# EAGLE library part MK64FN1M0VLL12 (library Freescale)
New freescale processor for DBC002.1
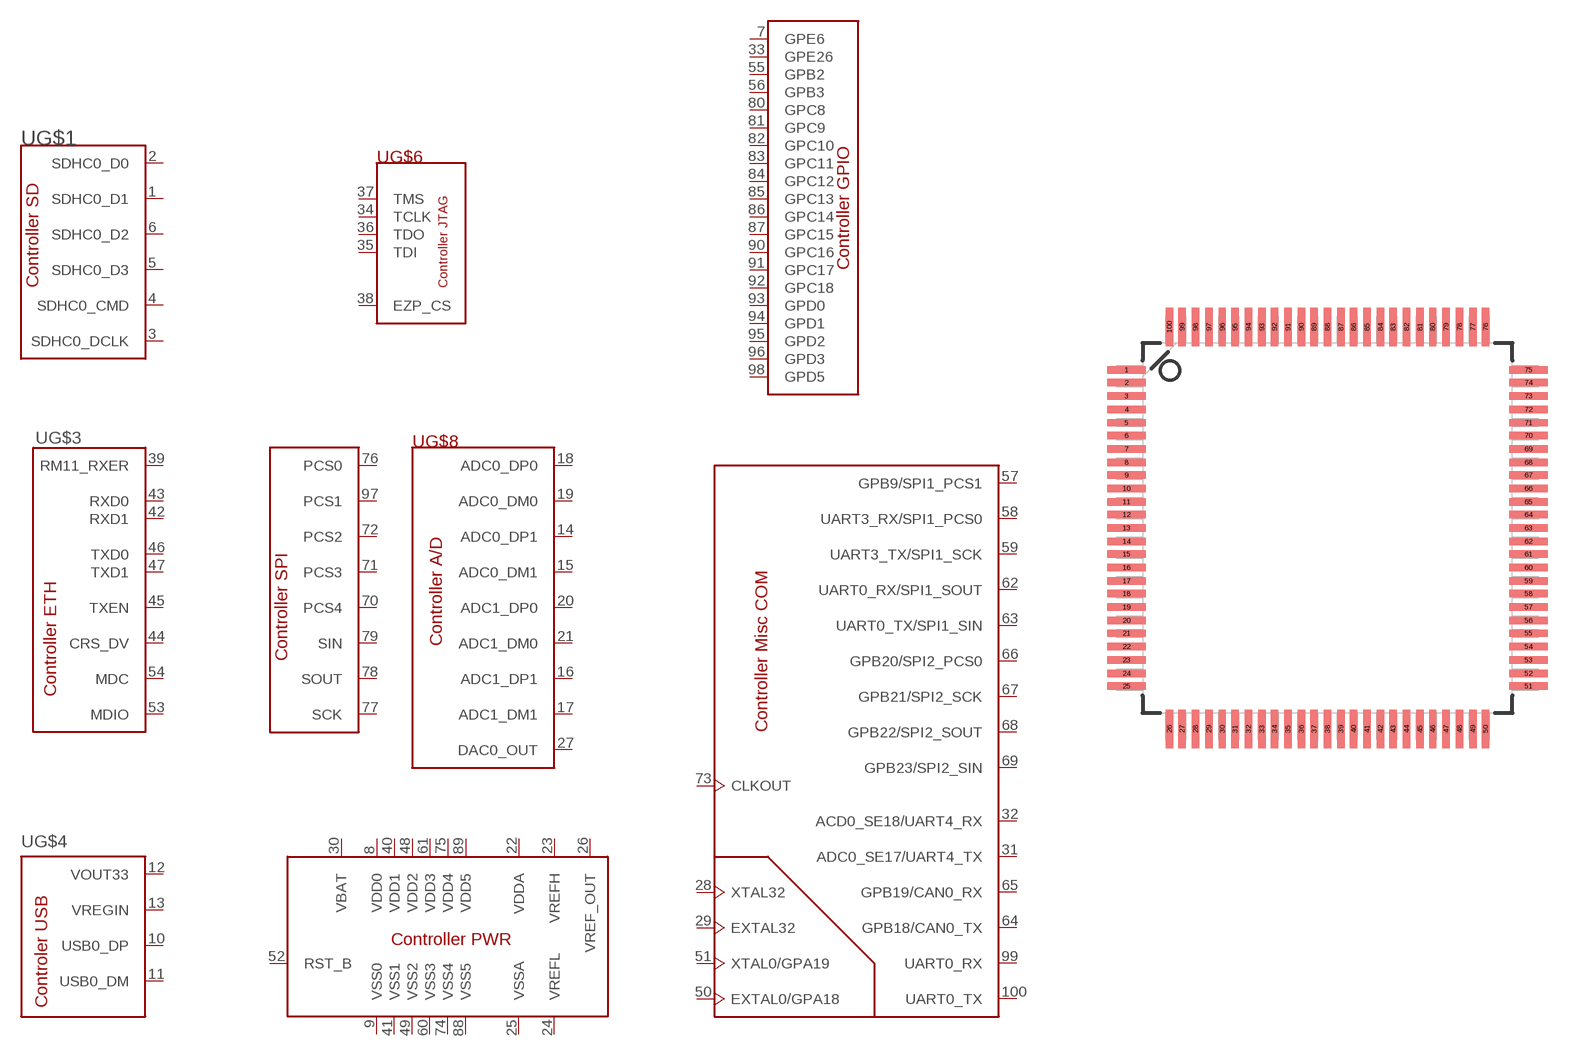
[diagram p0: symbol with the pads of LQFP100-1600X1600X150; footprint LQFP100-1600X1600X150]

Designator prefix U; gates G$1=SDCARD G$2=PWR G$3=ETH G$4=USB G$5=STACK_SPI G$6=JTAG G$7=GPIO G$8=A/D G$9=GEN

## MK64FN1M0VLL12PTCV2 (DIGIKEY: MK64FN1M0VLL12-ND)  [LQFP100-1600X1600X150]
1  G$1:SDHC0_D1
2  G$1:SDHC0_D0
3  G$1:SDHC0_DCLK
4  G$1:SDHC0_CMD
5  G$1:SDHC0_D3
6  G$1:SDHC0_D2
7  G$7:GPE6
8  G$2:VDD0
9  G$2:VSS0
10  G$4:USB0_DP
11  G$4:USB0_DM
12  G$4:VOUT33
13  G$4:VREGIN
14  G$8:ADC0_DP1
15  G$8:ADC0_DM1
16  G$8:ADC1_DP1
17  G$8:ADC1_DM1
18  G$8:ADC0_DP0
19  G$8:ADC0_DM0
20  G$8:ADC1_DP0
21  G$8:ADC1_DM0
22  G$2:VDDA
23  G$2:VREFH
24  G$2:VREFL
25  G$2:VSSA
26  G$2:VREF_OUT
27  G$8:DAC0_OUT
28  G$9:XTAL32
29  G$9:EXTAL32
30  G$2:VBAT
31  G$9:ADC0_SE17/UART4_TX
32  G$9:ACD0_SE18/UART4_RX
33  G$7:GPE26
34  G$6:TCLK
35  G$6:TDI
36  G$6:TDO
37  G$6:TMS
38  G$6:EZP_CS
39  G$3:RM11_RXER
40  G$2:VDD1
41  G$2:VSS1
42  G$3:RXD1
43  G$3:RXD0
44  G$3:CRS_DV
45  G$3:TXEN
46  G$3:TXD0
47  G$3:TXD1
48  G$2:VDD2
49  G$2:VSS2
50  G$9:EXTAL0/GPA18
51  G$9:XTAL0/GPA19
52  G$2:RST_B
53  G$3:MDIO
54  G$3:MDC
55  G$7:GPB2
56  G$7:GPB3
57  G$9:GPB9/SPI1_PCS1
58  G$9:UART3_RX/SPI1_PCS0
59  G$9:UART3_TX/SPI1_SCK
60  G$2:VSS3
61  G$2:VDD3
62  G$9:UART0_RX/SPI1_SOUT
63  G$9:UART0_TX/SPI1_SIN
64  G$9:GPB18/CAN0_TX
65  G$9:GPB19/CAN0_RX
66  G$9:GPB20/SPI2_PCS0
67  G$9:GPB21/SPI2_SCK
68  G$9:GPB22/SPI2_SOUT
69  G$9:GPB23/SPI2_SIN
70  G$5:PCS4
71  G$5:PCS3
72  G$5:PCS2
73  G$9:CLKOUT
74  G$2:VSS4
75  G$2:VDD4
76  G$5:PCS0
77  G$5:SCK
78  G$5:SOUT
79  G$5:SIN
80  G$7:GPC8
81  G$7:GPC9
82  G$7:GPC10
83  G$7:GPC11
84  G$7:GPC12
85  G$7:GPC13
86  G$7:GPC14
87  G$7:GPC15
88  G$2:VSS5
89  G$2:VDD5
90  G$7:GPC16
91  G$7:GPC17
92  G$7:GPC18
93  G$7:GPD0
94  G$7:GPD1
95  G$7:GPD2
96  G$7:GPD3
97  G$5:PCS1
98  G$7:GPD5
99  G$9:UART0_RX
100  G$9:UART0_TX

## Footprint LQFP100-1600X1600X150 (pad centres in mm)
smd 1.473 x 0.279: 1 -7.62,5.994; 2 -7.62,5.512; 3 -7.62,5.004; 4 -7.62,4.496; 5 -7.62,3.988; 6 -7.62,3.505; 7 -7.62,2.997; 8 -7.62,2.489; 9 -7.62,2.007; 10 -7.62,1.499; 11 -7.62,0.991; 12 -7.62,0.508; 13 -7.62,0; 14 -7.62,-0.508; 15 -7.62,-0.991; 16 -7.62,-1.499; 17 -7.62,-2.007; 18 -7.62,-2.489; 19 -7.62,-2.997; 20 -7.62,-3.505; 21 -7.62,-3.988; 22 -7.62,-4.496; 23 -7.62,-5.004; 24 -7.62,-5.512; 25 -7.62,-5.994; 51 7.62,-5.994; 52 7.62,-5.512; 53 7.62,-5.004; 54 7.62,-4.496; 55 7.62,-3.988; 56 7.62,-3.505; 57 7.62,-2.997; 58 7.62,-2.489; 59 7.62,-2.007; 60 7.62,-1.499; 61 7.62,-0.991; 62 7.62,-0.508; 63 7.62,0; 64 7.62,0.508; 65 7.62,0.991; 66 7.62,1.499; 67 7.62,2.007; 68 7.62,2.489; 69 7.62,2.997; 70 7.62,3.505; 71 7.62,3.988; 72 7.62,4.496; 73 7.62,5.004; 74 7.62,5.512; 75 7.62,5.994
smd 0.279 x 1.473: 26 -5.994,-7.62; 27 -5.512,-7.62; 28 -5.004,-7.62; 29 -4.496,-7.62; 30 -3.988,-7.62; 31 -3.505,-7.62; 32 -2.997,-7.62; 33 -2.489,-7.62; 34 -2.007,-7.62; 35 -1.499,-7.62; 36 -0.991,-7.62; 37 -0.508,-7.62; 38 0,-7.62; 39 0.508,-7.62; 40 0.991,-7.62; 41 1.499,-7.62; 42 2.007,-7.62; 43 2.489,-7.62; 44 2.997,-7.62; 45 3.505,-7.62; 46 3.988,-7.62; 47 4.496,-7.62; 48 5.004,-7.62; 49 5.512,-7.62; 50 5.994,-7.62; 76 5.994,7.62; 77 5.512,7.62; 78 5.004,7.62; 79 4.496,7.62; 80 3.988,7.62; 81 3.505,7.62; 82 2.997,7.62; 83 2.489,7.62; 84 2.007,7.62; 85 1.499,7.62; 86 0.991,7.62; 87 0.508,7.62; 88 0,7.62; 89 -0.508,7.62; 90 -0.991,7.62; 91 -1.499,7.62; 92 -2.007,7.62; 93 -2.489,7.62; 94 -2.997,7.62; 95 -3.505,7.62; 96 -3.988,7.62; 97 -4.496,7.62; 98 -5.004,7.62; 99 -5.512,7.62; 100 -5.994,7.62